# Altium footprint library CBU-PCB.PcbLib: 22 footprints (part 1 of 2)
Each footprint in its own frame and in the unit in brackets; x right, y up, seen from the top. Pads: shape width x height; smd on the part's side, far side on the other; paste and mask are expansions set on the pad; w line width, h text height; cw(c..) or ccw(c..) is an arc to the next point about the centre after c.
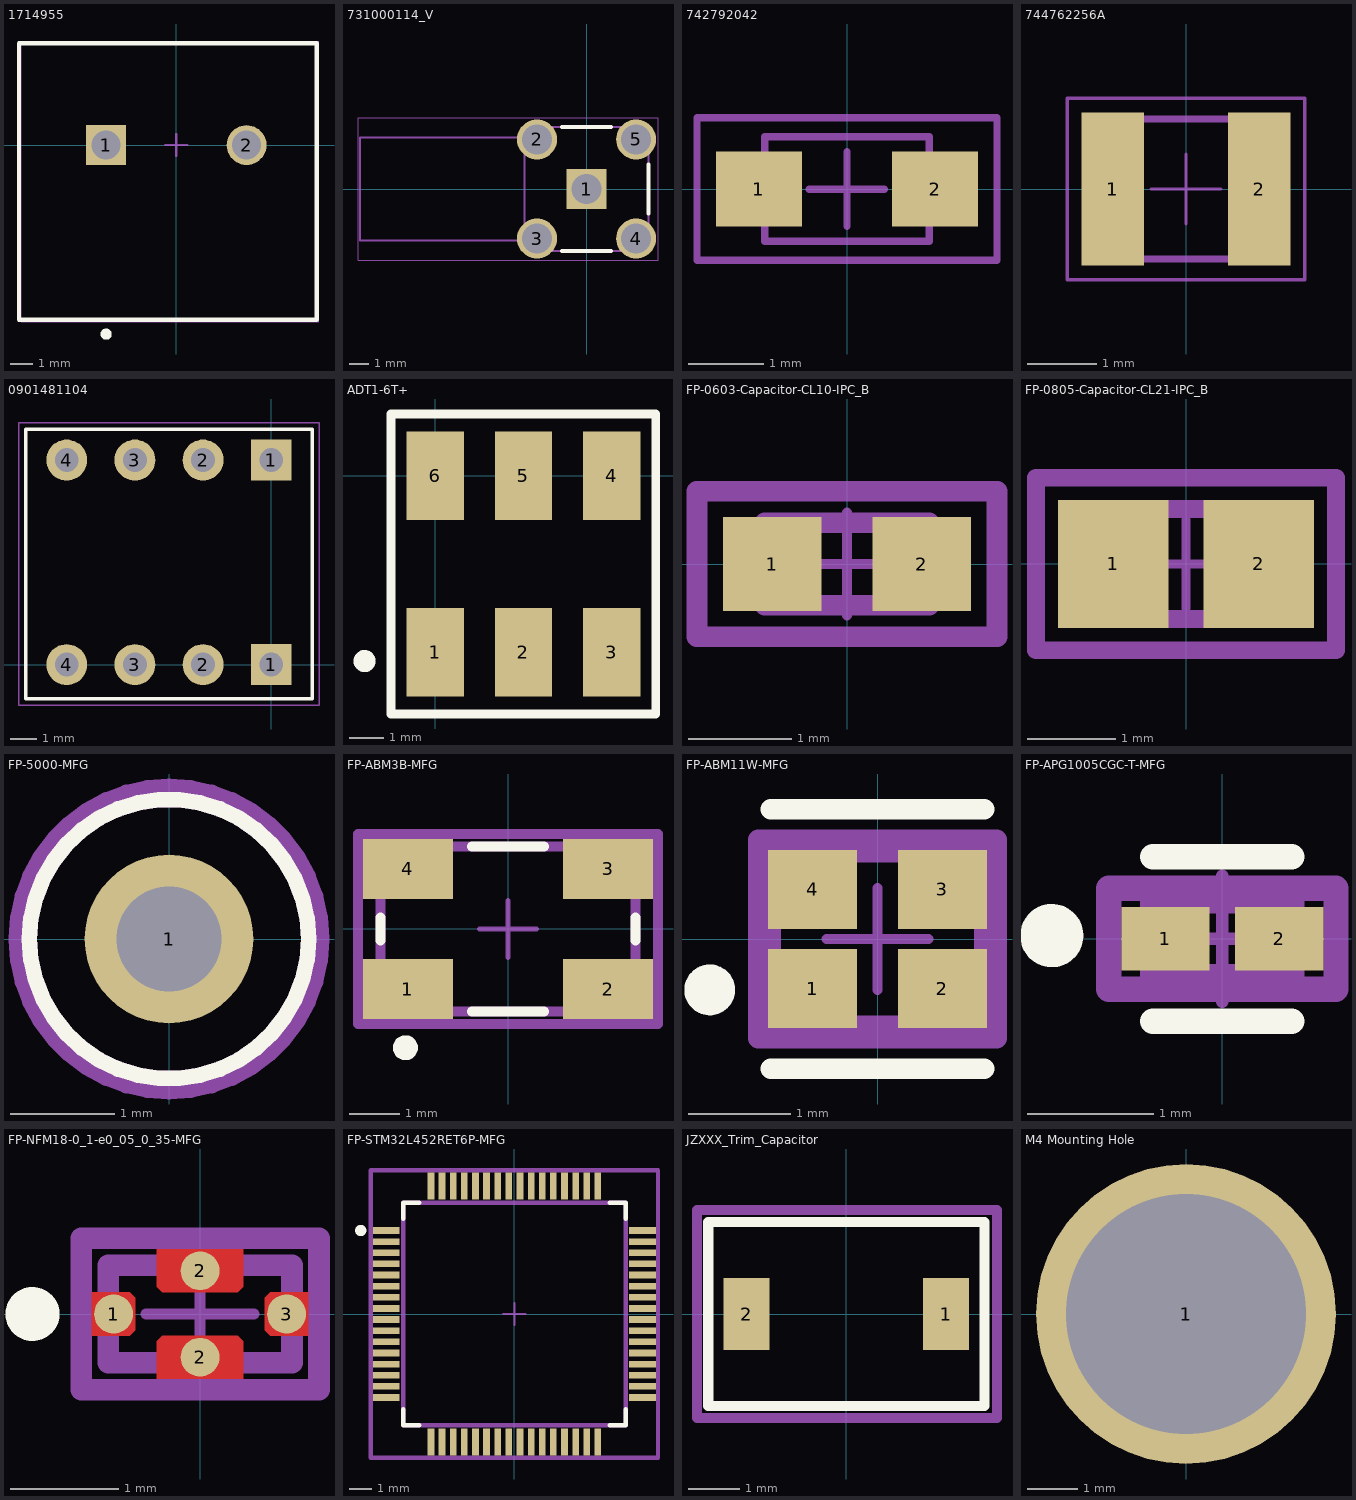
[diagram p0: the footprints below, top view; thin cyan lines are the x and y axes]

## 1714955 [mm] "Terminal Block, 2-Leads, Body 12.7x12.5mm, Pitch 6.35mm"
height 21.5
pads (2):
  rect 1.8x1.8 hole 1.3: 1(-3.175,0)
  round 1.8 hole 1.3: 2(3.175,0)
Top Overlay:
  circle w0.25: c-3.175,-8.55 r0.125
  lines w0.2: -7.112,-7.9 6.35,-7.9 6.35,4.6 -7.112,4.6 -7.112,-7.9
Top 3D Body:
  lines w0.1: -7.112,-7.9 6.35,-7.9 6.35,4.6 -7.112,4.6 -7.112,-7.9
Top Courtyard:
  lines w0.05: -7.02,-8 6.45,-8 6.45,4.7 -7.02,4.7 -7.02,-8
  lines w0.1: -0.5,0 0.5,0 ; 0,-0.5 0,0.5
3D body "1714955_03.stp": height 21.51, standoff -4.99, extent -6.92,-7.9 6.35,4.6

## 731000114_V [mm] "Connector, 5-Leads, Body 14.8x6.35mm, Pitch 2.54mm"
height 9.57
pads (5):
  rect 2.05x2.05 hole 1.54: 1(0,0)
  round 2.05 hole 1.54: 2(-2.54,2.54) 3(-2.54,-2.54) 4(2.54,-2.54) 5(2.54,2.54)
Top Overlay:
  lines w0.2: -1.264,-3.175 1.264,-3.175 ; -1.264,3.175 1.264,3.175 ; 3.175,-1.264 3.175,1.264
Top 3D Body:
  lines w0.1: -11.625,2.641 -3.175,2.641 ; -11.625,2.65 -11.625,-2.65 -3.175,-2.65 ; -3.175,3.175 3.175,3.175 3.175,-3.175 ; -3.175,3.175 -3.175,3.175 ; -3.175,3.175 -3.175,-3.175 3.175,-3.175 ; 3.175,-3.175 3.175,-3.175
Top Courtyard:
  lines w0.05: -11.725,-3.665 -11.725,3.665 3.665,3.665 3.665,-3.665 -11.725,-3.665
  lines w0.1: -0.5,0 0.5,0 ; 0,-0.5 0,0.5
3D body "731000114.stp": height 9.57, standoff -3.93, extent -11.625,-3.175 3.175,3.175

## 742792042 [mm] "Chip Inductor, 2-Leads, Body 2.0x1.2mm"
height 1.1
pads (2):
  rect 1.15x1 smd: 1(-1.175,0) 2(1.175,0)
Top 3D Body:
  lines w0.1: -1.1,-0.7 1.1,-0.7 1.1,0.7 -1.1,0.7 -1.1,-0.7
Top Courtyard:
  lines w0.1: -0.5,0 0.5,0 ; 0,-0.5 0,0.5 ; -2,-0.95 2,-0.95 2,0.95 -2,0.95 -2,-0.95
3D body "74279201.stp": height 0.89, standoff -0.01, extent -1,-0.6 1,0.6

## 744762256A [mm] "SMD Wire Wound Ceramic Inductor, body 2.50x2.00mm"
height 1.8
pads (2):
  rect 0.9x2.2 smd: 1(-1.05,0) 2(1.05,0)
Top Component Outline:
  lines w0.1: -1.25,-1 1.25,-1 1.25,1 -1.25,1 -1.25,-1
Top 3D Body:
  lines w0.1: -1.25,-1 -1.25,1 1.25,1 1.25,-1 -1.25,-1
Top Courtyard:
  lines w0.05: -0.5,0 0.5,0 ; 0,-0.5 0,0.5 ; -1.7,-1.3 1.7,-1.3 1.7,1.3 -1.7,1.3 -1.7,-1.3
3D body "STEP-WE-KI-1008A-rev1.stp": height 1.12, standoff -0.01, extent -1.25,-1.002 1.25,1.003

## 0901481104 [mil] "4-pin right angle THT 0.1\" pitch header with strain relief"
pads (8):
  rect 60x60 hole 35: 1(0,0) 1(0,300)
  round 60 hole 35: 2(-100,0) 2(-100,300) 3(-200,0) 3(-200,300) 4(-300,0) 4(-300,300)
Top Overlay:
  lines w5: -360,-50 -360,345 60,345 60,-50 -360,-50
Top Courtyard:
  lines w1.97: -370,-60 70,-60 70,355 -370,355 -370,-60
3D body "901481104.stp": height 130.5, standoff -113.5, extent -350,-17.5 50,317.5

## ADT1-6T+ [mil]
pads (6):
  rect 65x100 smd: 1(0,-200) 2(100,-200) 3(200,-200) 4(200,0) 5(100,0) 6(0,0)
Top Overlay:
  circle w15: c-80,-210 r5
  lines w10: -50,-270 250,-270 250,70 -50,70 -50,-270

## FP-0603-Capacitor-CL10-IPC_B [mm]
pads (2):
  rect 0.958x0.912 smd: 1(-0.727,0) 2(0.727,0)
Top Assembly:
  lines w0.2: -1.456,-0.706 1.456,-0.706 1.456,0.706 -1.456,0.706 -1.456,-0.706
Top 3D Body:
  lines w0.2: -0.8,-0.4 0.8,-0.4 0.8,0.4 -0.8,0.4 -0.8,-0.4
Top Courtyard:
  lines w0.2: -1.456,-0.706 1.456,-0.706 1.456,0.706 -1.456,0.706 -1.456,-0.706
Top Component Center:
  lines w0.1: -0.5,0 0.5,0 ; 0,-0.5 0,0.5
3D body "Cap_Samsung_CL10B105KA8NNNC_eec.STEP": height 0.25, standoff 0, extent -1.456,-0.706 1.456,0.706

## FP-0805-Capacitor-CL21-IPC_B [mm]
pads (2):
  rect 1.255x1.456 smd: 1(-0.826,0) 2(0.826,0)
Top Assembly:
  lines w0.2: -1.703,-0.978 1.703,-0.978 1.703,0.978 -1.703,0.978 -1.703,-0.978
Top 3D Body:
  lines w0.2: -1,-0.625 1,-0.625 1,0.625 -1,0.625 -1,-0.625
Top Courtyard:
  lines w0.2: -1.703,-0.978 1.703,-0.978 1.703,0.978 -1.703,0.978 -1.703,-0.978
Top Component Center:
  lines w0.1: -0.5,0 0.5,0 ; 0,-0.5 0,0.5
3D body "Cap_Samsung_CL21B273KBANNNC_eec.STEP": height 0.25, standoff 0, extent -1.703,-0.978 1.703,0.978

## FP-5000-MFG [mil]
pads (1):
  round 64 hole 40: 1(0,0)
Top Overlay:
  circle w5.91: c0,0 r52.95
Top 3D Body:
  circle w5.91: c0,0 r52.95
Top Courtyard:
  lines w7.87: -56.89,0 cw(c0,0) 56.89,0 cw(c0,0) -56.89,0
Top Component Center:
  lines w3.94: -19.68,0 19.68,0 ; 0,-19.68 0,19.68
3D body "Conn_Keystone_5000_eec.STEP": height 180.42, standoff -119.58, extent -50,-49.64 50,49.64

## FP-ABM3B-MFG [mm] "Crystal 4-SMD, No Lead"
pads (4):
  rect 1.8x1.2 smd: 1(-2,-1.2) 2(2,-1.2) 3(2,1.2) 4(-2,1.2)
Top Overlay:
  circle w0.25: c-2.05,-2.375 r0.125
  lines w0.2: -2.55,-0.225 -2.55,0.225 ; -0.725,-1.65 0.725,-1.65 ; -0.725,1.65 0.725,1.65 ; 2.55,-0.225 2.55,0.225
Top Assembly:
  lines w0.2: -3,-1.9 -3,1.9 3,1.9 3,-1.9 -3,-1.9
Top 3D Body:
  lines w0.2: -2.55,-1.65 -2.55,1.65 2.55,1.65 2.55,-1.65 -2.55,-1.65
Top Courtyard:
  lines w0.2: -3,-1.9 -3,1.9 3,1.9 3,-1.9 -3,-1.9
Top Component Center:
  lines w0.1: -0.57,0 0.57,0 ; 0,-0.57 0,0.57
3D body "Crys_Abracon_ABM3B-12_000MHZ-10-B-1-U-T_eec.STEP": height 0.25, standoff 0, extent -3,-1.9 3,1.9

## FP-ABM11W-MFG [mm]
pads (4):
  rect 0.875x0.775 smd: 1(-0.637,-0.487) 2(0.637,-0.487) 3(0.637,0.487) 4(-0.637,0.487)
Top Overlay:
  circle w0.25: c-1.65,-0.5 r0.125
  lines w0.2: -1.05,-1.275 1.05,-1.275 ; -1.05,1.275 1.05,1.275
Top Assembly:
  lines w0.2: -1.175,-0.975 1.175,-0.975 1.175,0.975 -1.175,0.975 -1.175,-0.975
Top 3D Body:
  lines w0.2: -1.05,-0.85 1.05,-0.85 1.05,0.85 -1.05,0.85 -1.05,-0.85
Top Courtyard:
  lines w0.2: -1.175,-0.975 1.175,-0.975 1.175,0.975 -1.175,0.975 -1.175,-0.975
Top Component Center:
  lines w0.1: -0.5,0 0.5,0 ; 0,-0.5 0,0.5
3D body "Crys_Abracon_ABM11W-16_0132MHZ-4-J1Z-T3_eec.STEP": height 0.25, standoff 0, extent -1.175,-0.975 1.175,0.975

## FP-APG1005CGC-T-MFG [mm]
pads (2):
  rect 0.7x0.5 smd: 1(-0.45,0) 2(0.45,0)
Top Overlay:
  circle w0.25: c-1.35,0.025 r0.125
  lines w0.2: -0.55,-0.654 0.55,-0.654 ; -0.55,0.65 0.55,0.65
Top Assembly:
  lines w0.2: -0.9,-0.4 0.9,-0.4 0.9,0.4 -0.9,0.4 -0.9,-0.4
Top 3D Body:
  lines w0.2: -0.55,-0.3 0.55,-0.3 0.55,0.3 -0.55,0.3 -0.55,-0.3
Top Courtyard:
  lines w0.2: -0.9,-0.4 0.9,-0.4 0.9,0.4 -0.9,0.4 -0.9,-0.4
Top Component Center:
  lines w0.1: -0.5,0 0.5,0 ; 0,-0.5 0,0.5
3D body "Diode_Kingbright_APG1005CGC-T_eec.STEP": height 0.25, standoff 0, extent -0.9,-0.4 0.9,0.4

## FP-NFM18-0_1-e0_05_0_35-MFG [mm]
pads (4):
  round 0.36 smd mask+0: 1(-0.8,0) 2(0,-0.4) 2(0,0.4) 3(0.8,0)
Top Layer:
  region: -1,-0.2 -1,0.2 -0.65,0.2 -0.6,0.15 -0.6,-0.15 -0.65,-0.2
  region: 1,-0.2 1,0.2 0.65,0.2 0.6,0.15 0.6,-0.15 0.65,-0.2
  region: -0.4,0.6 0.4,0.6 0.4,0.25 0.35,0.2 -0.35,0.2 -0.4,0.25
  region: -0.4,-0.6 0.4,-0.6 0.4,-0.25 0.35,-0.2 -0.35,-0.2 -0.4,-0.25
Top Overlay:
  circle w0.25: c-1.55,0 r0.125
Top Assembly:
  lines w0.2: -1.1,-0.7 1.1,-0.7 1.1,0.7 -1.1,0.7 -1.1,-0.7
Top 3D Body:
  lines w0.2: -0.85,-0.45 0.85,-0.45 0.85,0.45 -0.85,0.45 -0.85,-0.45
Top Courtyard:
  lines w0.2: -1.1,-0.7 1.1,-0.7 1.1,0.7 -1.1,0.7 -1.1,-0.7
Top Component Center:
  lines w0.1: -0.5,0 0.5,0 ; 0,-0.5 0,0.5
3D body "Cap_Murata_NFM18PS105D0J3D_eec.STEP": height 0.25, standoff 0, extent -1.1,-0.7 1.1,0.7

## FP-STM32L452RET6P-MFG [mm]
pads (64):
  rect 1.2x0.3 smd: 1(-5.75,3.75) 2(-5.75,3.25) 3(-5.75,2.75) 4(-5.75,2.25) 5(-5.75,1.75) 6(-5.75,1.25) 7(-5.75,0.75) 8(-5.75,0.25) 9(-5.75,-0.25) 10(-5.75,-0.75) 11(-5.75,-1.25) 12(-5.75,-1.75) 13(-5.75,-2.25) 14(-5.75,-2.75) 15(-5.75,-3.25) 16(-5.75,-3.75) 33(5.75,-3.75) 34(5.75,-3.25) 35(5.75,-2.75) 36(5.75,-2.25) 37(5.75,-1.75) 38(5.75,-1.25) 39(5.75,-0.75) 40(5.75,-0.25) 41(5.75,0.25) 42(5.75,0.75) 43(5.75,1.25) 44(5.75,1.75) 45(5.75,2.25) 46(5.75,2.75) 47(5.75,3.25) 48(5.75,3.75)
  rect 0.3x1.2 smd: 17(-3.75,-5.75) 18(-3.25,-5.75) 19(-2.75,-5.75) 20(-2.25,-5.75) 21(-1.75,-5.75) 22(-1.25,-5.75) 23(-0.75,-5.75) 24(-0.25,-5.75) 25(0.25,-5.75) 26(0.75,-5.75) 27(1.25,-5.75) 28(1.75,-5.75) 29(2.25,-5.75) 30(2.75,-5.75) 31(3.25,-5.75) 32(3.75,-5.75) 49(3.75,5.75) 50(3.25,5.75) 51(2.75,5.75) 52(2.25,5.75) 53(1.75,5.75) 54(1.25,5.75) 55(0.75,5.75) 56(0.25,5.75) 57(-0.25,5.75) 58(-0.75,5.75) 59(-1.25,5.75) 60(-1.75,5.75) 61(-2.25,5.75) 62(-2.75,5.75) 63(-3.25,5.75) 64(-3.75,5.75)
Top Overlay:
  circle w0.25: c-6.9,3.75 r0.125
  lines w0.2: -5,-4.275 -5,-5 -4.275,-5 ; -5,4.275 -5,5 -4.275,5 ; 4.275,-5 5,-5 5,-4.275 ; 4.275,5 5,5 5,4.275
Top Assembly:
  lines w0.2: -6.45,-6.45 -6.45,6.45 6.45,6.45 6.45,-6.45 -6.45,-6.45
Top 3D Body:
  lines w0.2: -5,-5 -5,5 5,5 5,-5 -5,-5
Top Courtyard:
  lines w0.2: -6.45,-6.45 -6.45,6.45 6.45,6.45 6.45,-6.45 -6.45,-6.45
Top Component Center:
  lines w0.1: -0.5,0 0.5,0 ; 0,-0.5 0,0.5
3D body "IC_STMicroelectronics_STM32L452RET6P_eec.STEP": height 0.25, standoff 0, extent -6.45,-6.45 6.45,6.45

## JZXXX_Trim_Capacitor [mm] "Trimmer Capacitor Top Surface Mount"
pads (2):
  rect 0.9x1.4 smd: 1(1.95,0) 2(-1.95,0)
Top Overlay:
  lines w0.2: -2.7,-1.8 2.7,-1.8 2.7,1.8 -2.7,1.8 -2.7,-1.8
Top Courtyard:
  lines w0.2: -2.921,-2.032 -2.921,2.032 2.946,2.032 2.946,-2.032 -2.921,-2.032

## M4 Mounting Hole [mm]
pads (1):
  round 6 hole 4.8: 1(0,0)